# Altium schematic symbol library On_Semiconductor_NTR4003NT1G.SchLib: 1 symbol
Pins are listed as number, name and electrical type; pins without a type are passive.

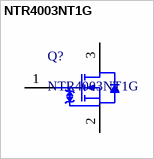
[diagram p0: symbol NTR4003NT1G]

## NTR4003NT1G
designator Q?
Small Signal MOSFET, 30 V, 0.56 A, Single N-Channe, 3-Pin SOT-23, Pb-Free, Tape and Reel; Manufacturer: On Semiconductor; VGS(th) Max (V): 1.4; Crss Typ (pF): 8.1; Channel Polarity: N Channel; Coss Typ (pF): 19.7; ID Max (A): 0.56; Ciss Typ (pF): 21; V(BR)DSS Min (V): 30; VGS Max (V): 20; PartNumber: NTR4003NT1G; ComponentLink1Description: Manufacturer URL; ComponentLink2Description: Datasheet; DatasheetVersion: Rev. 3; ComponentLink3URL: http://www.onsemi.cn/pub_link/Collateral/318-08.PDF; ComponentLink3Description: Package Specification; ComponentLink1URL: http://www.onsemi.com/; Packing: Tape and Reel; Package Type: SOT-23-3; Configuration: Single; ComponentLink2URL: http://www.onsemi.cn/pub_link/Collateral/NTR4003N-D.PDF; PackageVersion: Rev. AP, 11/2009; RoHS: Pb-Free; Mounting Technology: Surface Mount; PackageReference: SOT-23-3-318-08; PackageDescription: 3-Pin Small Outline Transistor, Body 2.92 x 1.3 mm, Pitch 0.95 mm
footprint ONSC-SOT-23-3-318-08_V
pins: 1 G, 2 S, 3 D